# Altium footprint library TAOGLAS_GGBLA.125.A_DECT-NTN-L1.PcbLib: 1 footprints
Each footprint in its own frame and in the unit in brackets; x right, y up, seen from the top. Pads: shape width x height; smd on the part's side, far side on the other; paste and mask are expansions set on the pad; w line width, h text height; cw(c..) or ccw(c..) is an arc to the next point about the centre after c.
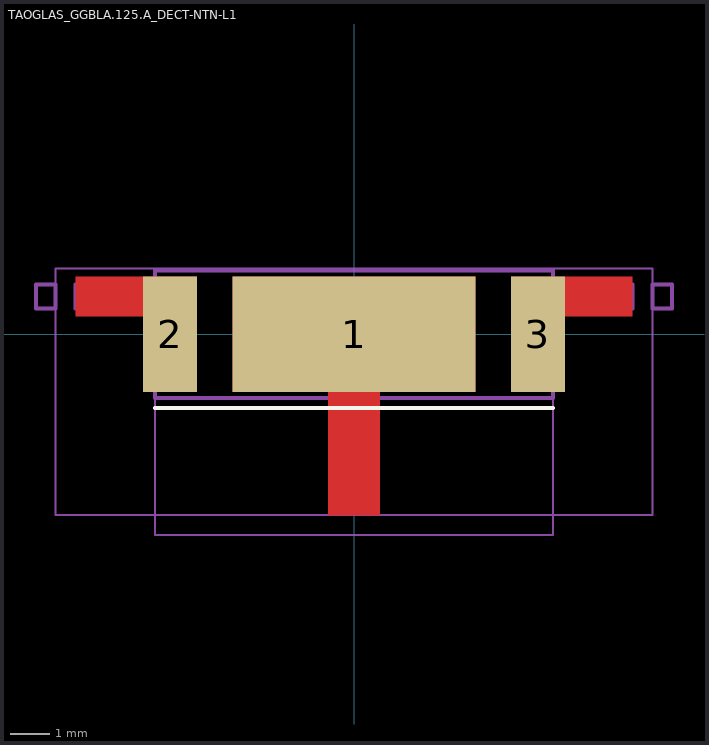
[diagram p0: the footprint, top view; thin cyan lines are the x and y axes]

## TAOGLAS_GGBLA.125.A_DECT-NTN-L1 [mm] "GPS L1/L2/L5/L6, GLONASS, BeiDou Ceramic Loop Antenna for cm-Level with RTK"
pads (3):
  rect 6.1x2.9 smd mask+0.1: 1(0,0)
  rect 1.35x2.9 smd mask+0.1: 2(-4.625,0)
  rect 1.35x2.9 smd paste+0 mask+0.1: 3(4.625,0)
Top Layer:
  region: -3.05,-1.45 -0.65,-1.45 -0.65,-4.55 0.65,-4.55 0.65,-1.45 3.05,-1.45 3.05,1.45 -3.05,1.45
  region: 3.95,-1.45 3.95,1.45 7,1.45 7,0.45 5.3,0.45 5.3,-1.45
  region: -5.3,-1.45 -5.3,0.45 -7,0.45 -7,1.45 -3.95,1.45 -3.95,-1.45
Top Overlay:
  lines w0.1: -5,-1.85 5,-1.85
Assembly Outline:
  lines w0.1: -5,-1.6 -5,1.6 5,1.6 5,-1.6 -5,-1.6
  text ".Designator" at -4.998,-0.333 h1
Top Application Notes:
  lines w0.05: -7.5,-4.55 7.5,-4.55 7.5,1.65 -7.5,1.65 -7.5,-4.55
  lines w0.1: -8,0.65 -7.5,0.65 -7.5,1.25 -8,1.25 -8,0.65 ; -7,0.65 -6.5,0.65 -6.5,1.25 -7,1.25 -7,0.65 ; 6.5,0.65 6.5,1.25 7,1.25 7,0.65 6.5,0.65 ; 7.5,0.65 8,0.65 8,1.25 7.5,1.25 7.5,0.65
  text "COPPER KEEPOUT (TOP LAYER)" at -7.36,-4.46 h0.2
  text "Please see the datasheet for further information" at -7.36,-4.96 h0.2
  text "Place 0 Ohm 0402 Resistor here ->" at -16.147,0.825 h0.25
  text "<- Place 9pF 0402 Capacitor here" at 8.15,0.867 h0.25
  text "PCB EDGE" at -1.916,1.85 h0.5
  text "FTE" at -6.858,-0.25 h0.5
  text "FTE" at 5.525,-0.25 h0.5
  text "FEED" at -2.616,-2.5 h0.5
Bottom Application Notes:
  lines w0.05: -5,-5.05 5,-5.05 5,1.65 -5,1.65 -5,-5.05
  text "COPPER KEEPOUT (ALL OTHER LAYERS)" at -1.571,-4.46 h0.2
3D body "GGBLA.125.A.STEP": height 1.5, standoff 0, extent -5,-1.6 5,1.6